# Altium schematic symbol library BVN-Z-R0005-1.0.SchLib: 1 symbol
Pins are listed as number, name and electrical type; pins without a type are passive.

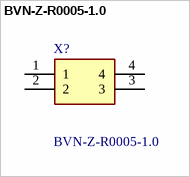
[diagram p0: symbol BVN-Z-R0005-1.0]

## BVN-Z-R0005-1.0
designator X?
0.5 mOhms +/-1% 9W Chip Resistor Wide 1612 (3831 Metric), 1216 Current Sense, Moisture Resistant; Manufacturer_Name: Isabellenhutte; Geometry.Height: 1.9mm; Manufacturer_Part_Number: BVN-Z-R0005-1.0; Mouser Part Number: *; Mouser Price/Stock: *; Arrow Part Number: *; Arrow Price/Stock: *; Datasheet Link: https://www.isabellenhuette.de/fileadmin/Daten/Praezisionswiderstaende/Datenblaetter/BVN.pdf
footprint BVNZR000510
pins: 1, 2, 3, 4